# EAGLE library part LTC1865 (library adc_dac)
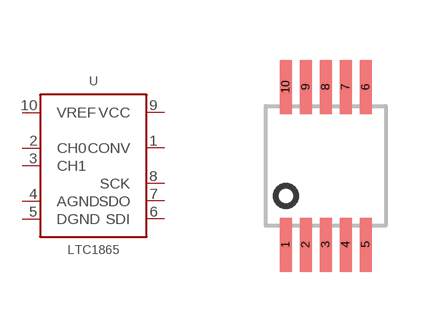
[diagram p0: symbol with the pads of MSOP-10; footprint MSOP-10]

Designator prefix U

## LTC1865-MSOP  [MSOP-10]
1  CONV  in
2  CH0  in
3  CH1  in
4  AGND  pwr
5  DGND  pwr
6  SDI  in
7  SDO  out
8  SCK  in
9  VCC  pwr
10  VREF  in

## Footprint MSOP-10 (pad centres in mm)
smd 0.3 x 1.35: 1 -1,-1.975; 2 -0.5,-1.975; 3 0,-1.975; 4 0.5,-1.975; 5 1,-1.975; 6 1,1.975; 7 0.5,1.975; 8 0,1.975; 9 -0.5,1.975; 10 -1,1.975